# Altium footprint library OTHER.PCBLIB: 126 footprints (part 4 of 8)
Each footprint in its own frame and in the unit in brackets; x right, y up, seen from the top. Pads: shape width x height; smd on the part's side, far side on the other; paste and mask are expansions set on the pad; w line width, h text height; cw(c..) or ccw(c..) is an arc to the next point about the centre after c.
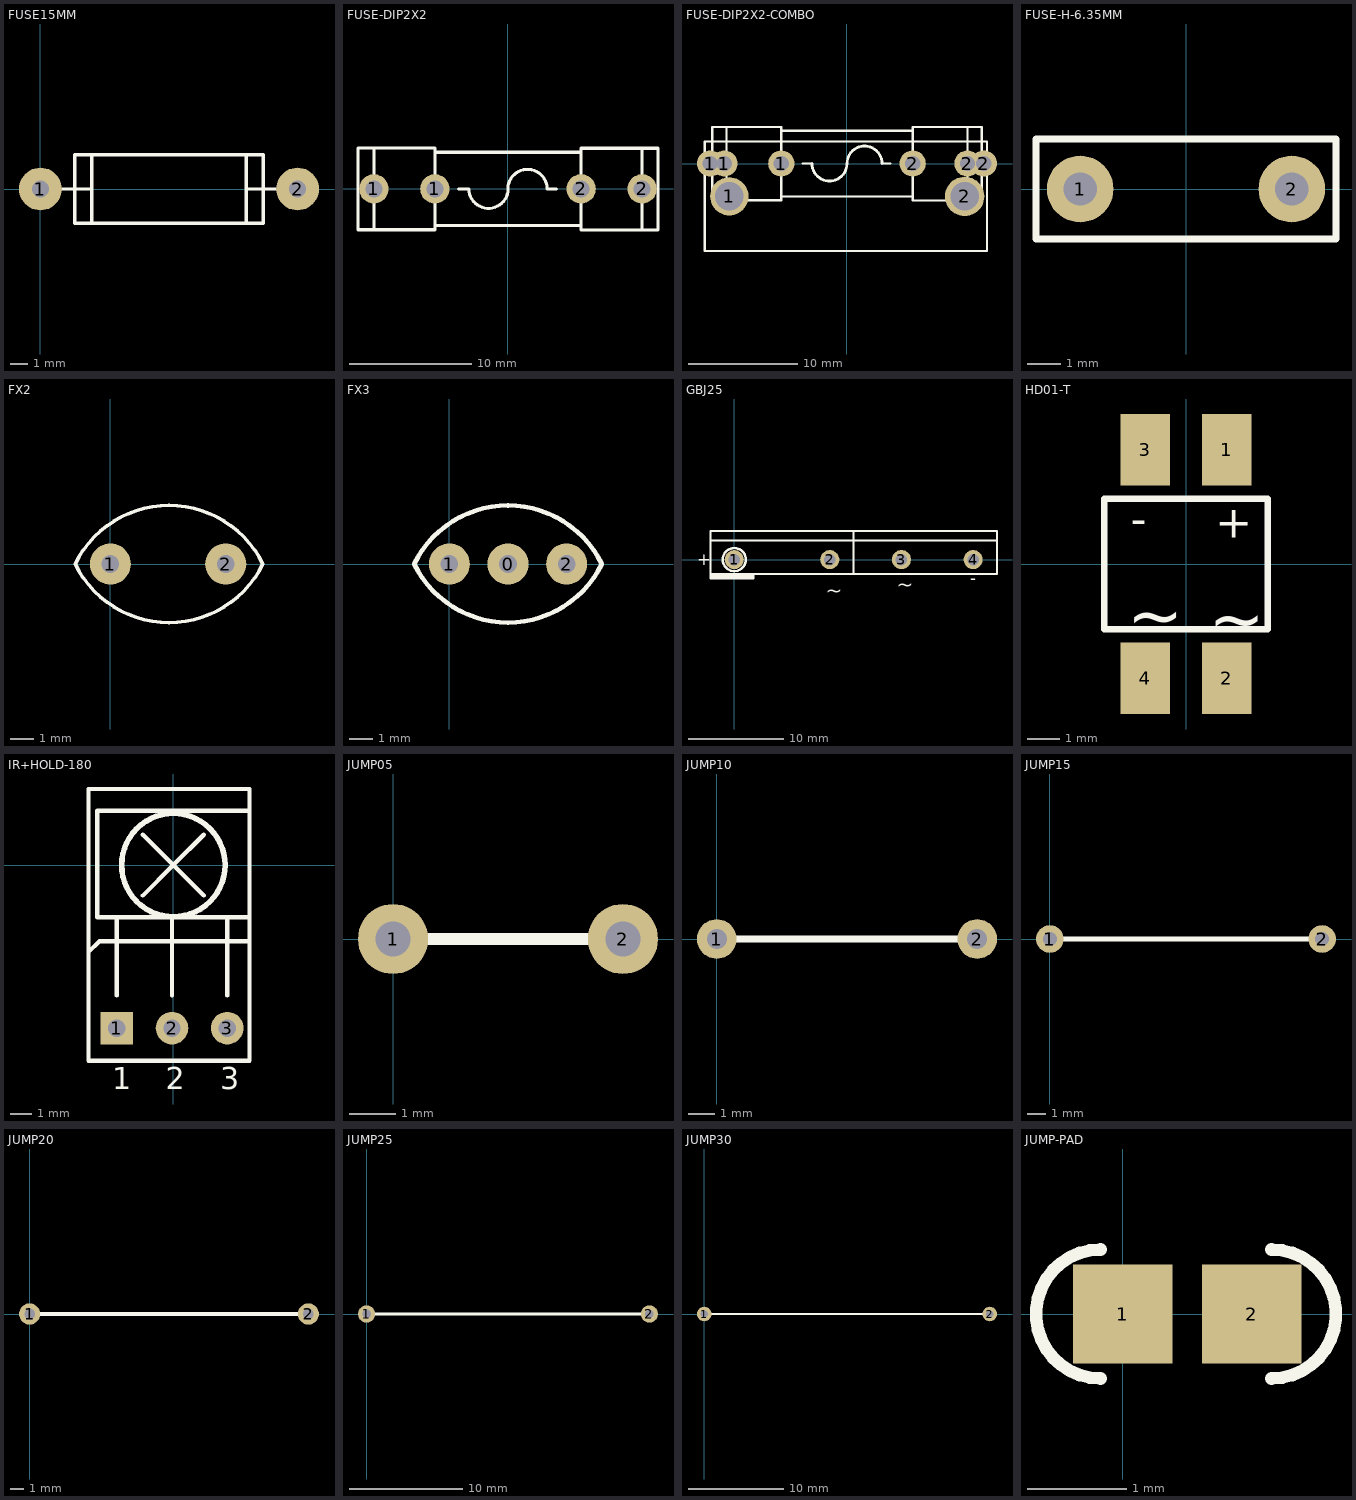
[diagram p3: the footprints below, top view; thin cyan lines are the x and y axes]

## FUSE15MM [mm]
pads (2):
  round 2.5 hole 1: 1(0,0) 2(15,0)
TopOverlay:
  lines w0.203: 0,0 3,0 ; 12,0 15,0 ; 3,-2 3,2 ; 3,-2 12,-2 ; 3,-2 2,-2 2,2 3,2 ; 3,2 12,2 ; 12,-2 12,2 ; 12,-2 13,-2 13,2 12,2

## FUSE-DIP2X2 [mm]
pads (4):
  round 2.4 hole 1.4: 1(-11,0) 1(-6,0) 2(6,0) 2(11,0)
TopOverlay:
  lines w0.254: -11,-3.275 -11,3.35 ; -6,-3 6,-3 ; -6,3 6,3 ; -4.075,0 -3.2,0 ccw(c-1.6,0) 0,0 cw(c1.6,0) 3.2,0 3.975,0 ; 11,-3.375 11,3.25 ; -12.3,-3.35 -6,-3.35 -6,3.35 -12.3,3.35 -12.3,-3.35 ; 6,-3.375 12.3,-3.375 12.3,3.325 6,3.325 6,-3.375

## FUSE-DIP2X2-COMBO [mm]
pads (8):
  round 2.4 hole 1.4: 1(-12.5,0) 1(-11.2,0) 1(-6,0) 2(6,0) 2(11,0) 2(12.5,0)
  round 3.5 hole 2.6: 1(-10.75,-3)
  round 3.6 hole 2.6: 2(10.75,-3)
TopOverlay:
  lines w0.2: -11,-3.275 -11,3.35 ; -6,-3 6,-3 ; -6,3 6,3 ; -4.075,0 -3.2,0 ; 3.2,0 3.975,0 ; 11,-3.375 11,3.25 ; -13,-8 12.8,-8 12.8,2 -13,2 -13,-8 ; -12.3,-3.35 -12.3,3.35 -6,3.35 -6,-3.35 -12.3,-3.35 ; 6,-3.375 6,3.325 12.3,3.325 12.3,-3.375 6,-3.375
  lines w0.254: -3.2,0 ccw(c-1.6,0) 0,0 cw(c1.6,0) 3.2,0

## FUSE-H-6.35MM [mm]
pads (2):
  round 2 hole 1: 1(-3.175,0) 2(3.175,0)
TopOverlay:
  lines w0.2: -4.5,-1.5 4.5,-1.5 4.5,1.5 -4.5,1.5 -4.5,-1.5

## FX2 [mil]
pads (2):
  round 70 hole 30: 1(0,0) 2(196.85,0)
TopOverlay:
  lines w6: -59.99,-0.03 ccw(c100,78) 259.99,-0.03 ; -59.99,0.03 cw(c100,-78) 259.99,0.03

## FX3 [mil]
pads (3):
  round 70 hole 30: 0(100,0) 1(0,0) 2(200,0)
TopOverlay:
  lines w8: -59.99,-0.03 ccw(c100,78) 259.99,-0.03 ; -59.99,0.03 cw(c100,-78) 259.99,0.03

## GBJ25 [mm]
pads (4):
  round 2 hole 1.2: 1(0,0) 2(10,0) 3(17.5,0) 4(25,0)
TopOverlay:
  circle w0.254: c0,0 r1.208
  rectangle: -2.5,-2 2,-1.5
  lines w0.2: -2.5,2 27.5,2 ; 2,-1.5 2,-2 -2.5,-2 -2.5,-1.5 ; 12.5,-1.5 12.5,3 ; -2.5,-1.5 27.5,-1.5 27.5,3 -2.5,3 -2.5,-1.5
  text "-" at 24.7,-2.6 h1.27
  text "~" at 9.599,-3.925 h1.52
  text "~" at 17,-3.3 h1.52
  text "+" at -3.9,-0.6 h1.27

## HD01-T [mm]
pads (4):
  rect 1.524x2.2 smd: 1(1.25,3.5) 2(1.25,-3.5) 3(-1.25,3.5) 4(-1.25,-3.5)
TopOverlay:
  lines w0.2: -2.5,-2 2.5,-2 2.5,2 -2.5,2 -2.5,-2
  text "+" at 0.9,0.8 h1
  text "-" at -1.7,0.9 h1
  text "~" at -1.8,-2.3 h1.5
  text "~" at 0.7,-2.4 h1.5

## IR+HOLD-180 [mm]
pads (3):
  rect 1.5x1.5 hole 0.8: 1(-2.6,-7.5)
  round 1.5 hole 0.8: 2(-0.06,-7.5) 3(2.48,-7.5)
TopOverlay:
  circle w0.254: c0,0 r2.377
  lines w0.2: -2.6,-6 -2.6,-2.4 ; -1.4,-1.4 0,0 ; -1.4,1.4 0,0 ; -0.06,-6 -0.06,-2.44 ; 1.4,-1.4 0,0 ; 1.4,1.4 0,0 ; 2.48,-6 2.48,-3.12 2.48,-2.42 ; -3.9,-4 -3.9,-9 3.5,-9 3.5,-3.5 ; -3.9,-4 -3.4,-3.5 3.5,-3.5 ; -3.9,-4 -3.9,3.5 3.5,3.5 3.5,-3.5 ; -3.5,-2.4 -3.5,2.5 3.5,2.5 3.5,-2.4 -3.5,-2.4
  text "1" at -2.8,-10.3 h1
  text "2" at -0.35,-10.3 h1
  text "3" at 2.15,-10.3 h1
BottomOverlay:
  text "1" at -2.4,-10.3 h1
  text "2" at 0.3,-10.3 h1
  text "3" at 2.8,-10.3 h1

## JUMP05 [mil]
pads (2):
  round 60 hole 30: 1(0,0) 2(196.85,0)
TopOverlay:
  lines w10: 0,0 196.85,0

## JUMP10 [mil]
pads (2):
  round 60 hole 30: 1(0,0) 2(393.7,0)
TopOverlay:
  lines w10: 0,0 393.7,0

## JUMP15 [mil]
pads (2):
  round 60 hole 30: 1(0,0) 2(590.55,0)
TopOverlay:
  lines w10: 0,0 590.55,0

## JUMP20 [mil]
pads (2):
  round 60 hole 30: 1(0,0) 2(787.4,0)
TopOverlay:
  lines w10: 0,0 787.4,0

## JUMP25 [mil]
pads (2):
  round 60 hole 30: 1(0,0) 2(984.25,0)
TopOverlay:
  lines w10: 0,0 984.25,0

## JUMP30 [mil]
pads (2):
  round 60 hole 30: 1(0,0) 2(1181.1,0)
TopOverlay:
  lines w10: 0,0 1181.1,0

## JUMP-PAD [mm]
pads (2):
  rect 1x1 smd: 1(0,0) 2(1.3,0)
TopOverlay:
  lines w0.127: -0.225,-0.65 cw(c-0.225,0) -0.225,0.65 ; 1.5,-0.65 ccw(c1.5,0) 1.5,0.65